# EAGLE library part INA219-SOT23-8 (library INA219 )
INA219 Bi-Directional CURRENT/POWER MONITOR with I2C™ Interface http://www.ti.com/lit/ds/symlink/ina219.pdf
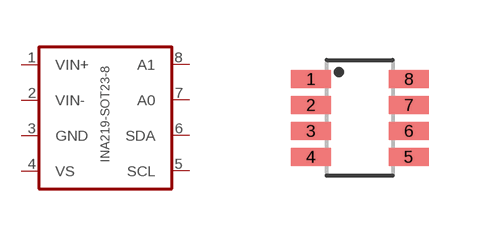
[diagram p0: symbol with the pads of SOT23-8; footprint SOT23-8]

Designator prefix -

## INA219-SOT23-8  [SOT23-8]
1  VIN+  in
2  VIN-  in
3  GND  pwr
4  VS  pwr
5  SCL
6  SDA
7  A0  in
8  A1  in

## Footprint SOT23-8 (pad centres in mm)
smd 1 x 0.45: 1 -1.225,0.975; 2 -1.225,0.325; 3 -1.225,-0.325; 4 -1.225,-0.975; 5 1.225,-0.975; 6 1.225,-0.325; 7 1.225,0.325; 8 1.225,0.975